# Altium footprint library dcLinkCaps.PcbLib: 13 footprints
Each footprint in its own frame and in the unit in brackets; x right, y up, seen from the top. Pads: shape width x height; smd on the part's side, far side on the other; paste and mask are expansions set on the pad; w line width, h text height; cw(c..) or ccw(c..) is an arc to the next point about the centre after c.
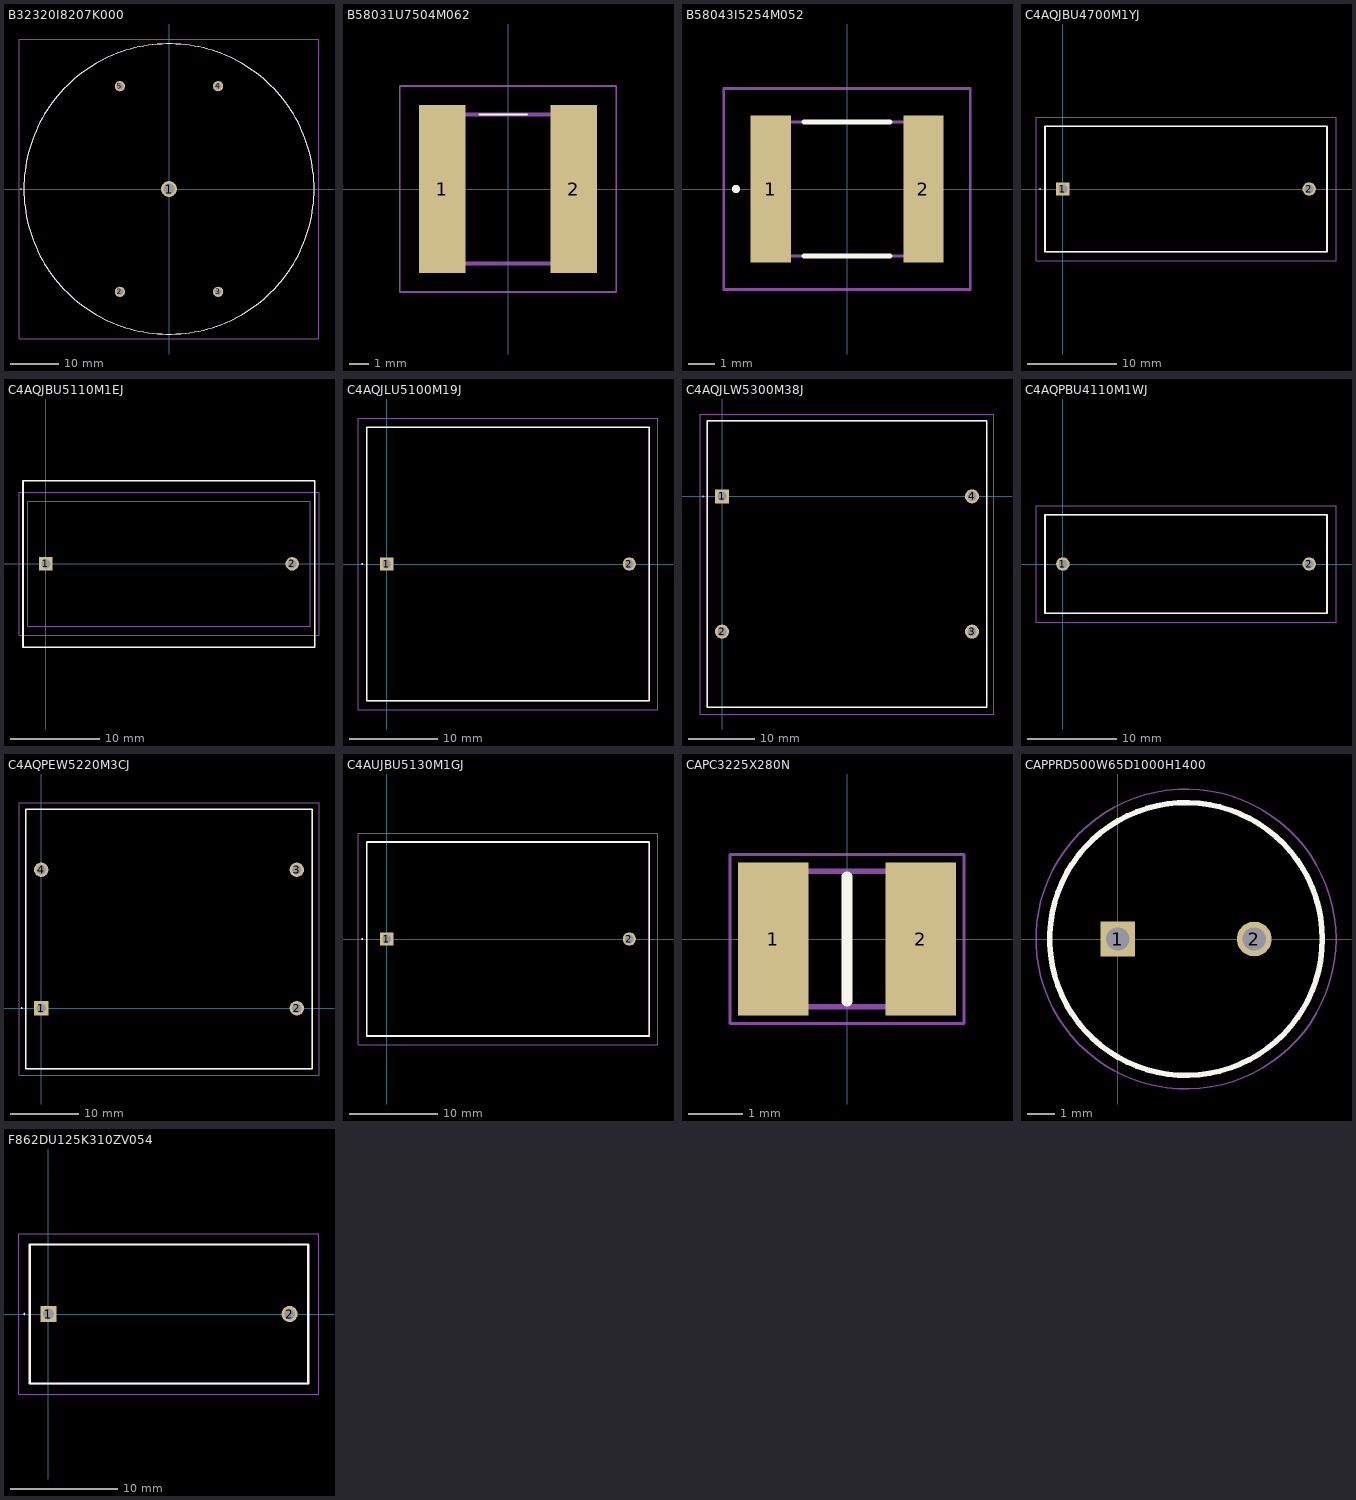
[diagram p0: the footprints below, top view; thin cyan lines are the x and y axes]

## B32320I8207K000 [mm]
pads (5):
  round 3.3 hole 2.2: 1(0,0)
  round 2.1 hole 1.4: 2(-10.15,-21.25) 3(10.15,-21.25) 4(10.15,21.25) 5(-10.15,21.25)
Top Overlay:
  lines w0.2: -30.6,0 ccw(c-30.55,0) -30.5,0 ; -30.6,0 cw(c-30.55,0) -30.5,0 ; -30.6,0 ccw(c-30.55,0) -30.5,0 ; -30,0 cw(c0,0) 30,0 cw(c0,0) -30,0
Mechanical 13:
  lines w0.1: -30,0 cw(c0,0) 30,0 cw(c0,0) -30,0
Mechanical 15:
  lines w0.1: -31,-31 -31,31 31,31 31,-31 -31,-31
3D body "B32320I8207K000.stp": height 119.75, standoff -4.75, extent -30,-30 30,30

## B58031U7504M062 [mm]
pads (2):
  rect 2.45x8.85 smd: 1(-3.475,0) 2(3.475,0)
Top Overlay:
  lines w0.1: -1.5,3.925 1,3.925
Mechanical 13:
  lines w0.2: -3.57,-3.925 3.57,-3.925 3.57,3.925 -3.57,3.925 -3.57,-3.925
Mechanical 15:
  lines w0.1: -5.7,-5.425 5.7,-5.425 5.7,5.425 -5.7,5.425 -5.7,-5.425
3D body "B58031U7504M062.stp": height 4, standoff 0, extent -3.57,-3.925 3.57,3.925

## B58043I5254M052 [mm]
pads (2):
  rect 1.5x5.5 smd: 1(-2.85,0) 2(2.85,0)
Top Overlay:
  lines w0.2: -1.6,-2.5 1.6,-2.5 ; -1.6,2.5 1.6,2.5 ; -4.2,0 ccw(c-4.15,0) -4.1,0 ; -4.2,0 cw(c-4.15,0) -4.1,0 ; -4.2,0 ccw(c-4.15,0) -4.1,0
Mechanical 13:
  lines w0.1: -2.85,-2.5 2.85,-2.5 2.85,2.5 -2.85,2.5 -2.85,-2.5
Mechanical 15:
  lines w0.1: -4.6,-3.75 4.6,-3.75 4.6,3.75 -4.6,3.75 -4.6,-3.75
3D body "B58043I5254M052.stp": height 1.4, standoff 0, extent -2.77,-2.357 2.78,2.363

## C4AQJBU4700M1YJ [mm]
pads (2):
  rect 1.5x1.5 hole 1: 1(0,0)
  round 1.5 hole 1: 2(27.5,0)
Top Overlay:
  lines w0.1: -2.6,0 cw(c-2.55,0) -2.5,0 cw(c-2.55,0) -2.6,0
  lines w0.2: -2,-7 -2,7 29.5,7 29.5,-7 -2,-7
Mechanical 13:
  lines w0.1: -2,-7 -2,7 29.5,7 29.5,-7 -2,-7
Mechanical 15:
  lines w0.1: -3,-8 -3,8 30.5,8 30.5,-8 -3,-8
3D body "C4AQJBU4700M1YJ.stp": height 28.2, standoff -6, extent -2.25,-7.155 29.75,7.15

## C4AQJBU5110M1EJ [mm]
pads (2):
  rect 1.5x1.5 hole 1: 1(0,0)
  round 1.5 hole 1: 2(27.5,0)
Top Overlay:
  lines w0.1: -2.6,0 ccw(c-2.55,0) -2.5,0 ccw(c-2.55,0) -2.6,0
  lines w0.2: -2.55,-9.325 30.025,-9.325 30.025,9.275 -2.55,9.275 -2.55,-9.325
Mechanical 13:
  lines w0.1: -2,-7 29.5,-7 29.5,7 -2,7 -2,-7
Mechanical 15:
  lines w0.1: -3,-8 30.5,-8 30.5,8 -3,8 -3,-8
3D body "C4AQJBU5110M1EJ.step": height 33.2, standoff -6, extent -2.5,-9.303 30,9.303

## C4AQJLU5100M19J [mm]
pads (2):
  rect 1.5x1.5 hole 1: 1(0,0)
  round 1.5 hole 1: 2(27.5,0)
Top Overlay:
  lines w0.1: -2.8,0 cw(c-2.75,0) -2.7,0 cw(c-2.75,0) -2.8,0
  lines w0.2: -2.25,-15.5 -2.25,15.5 29.75,15.5 29.75,-15.5 -2.25,-15.5
Mechanical 13:
  lines w0.1: -2.25,-15.5 -2.25,15.5 29.75,15.5 29.75,-15.5 -2.25,-15.5
Mechanical 15:
  lines w0.1: -3.25,-16.5 -3.25,16.5 30.75,16.5 30.75,-16.5 -3.25,-16.5
3D body "C4AQJLU5100M19J.stp": height 19.2, standoff -6, extent -2.5,-15.655 30,15.65

## C4AQJLW5300M38J [mm]
pads (4):
  rect 2.1x2.1 hole 1.4: 1(0,0)
  round 2.1 hole 1.4: 2(0,-20.3) 3(37.5,-20.3) 4(37.5,0)
Top Overlay:
  lines w0.1: -2.9,0 ccw(c-2.85,0) -2.8,0 ccw(c-2.85,0) -2.9,0
  lines w0.2: -2.25,-31.65 39.75,-31.65 39.75,11.35 -2.25,11.35 -2.25,-31.65
Mechanical 13:
  lines w0.1: -2.25,-31.65 39.75,-31.65 39.75,11.35 -2.25,11.35 -2.25,-31.65
Mechanical 15:
  lines w0.1: -3.25,-32.65 40.75,-32.65 40.75,12.35 -3.25,12.35 -3.25,-32.65
3D body "C4AQJLW5300M38J.stp": height 25.2, standoff -6, extent -2.54,-31.863 40.06,11.543

## C4AQPBU4110M1WJ [mm]
pads (2):
  round 1.5 hole 1: 1(0,0) 2(27.5,0)
Top Overlay:
  lines w0.2: -2,-5.5 29.5,-5.5 29.5,5.5 -2,5.5 -2,-5.5
Mechanical 13:
  lines w0.1: -2,-5.5 29.5,-5.5 29.5,5.5 -2,5.5 -2,-5.5
Mechanical 15:
  lines w0.1: -3,-6.5 30.5,-6.5 30.5,6.5 -3,6.5 -3,-6.5
3D body "C4AQPBU4110M1WJ.stp": height 20.2, standoff -6, extent -2.25,-5.655 29.75,5.65

## C4AQPEW5220M3CJ [mm]
pads (4):
  rect 2.1x2.1 hole 1.4: 1(0,0)
  round 2.1 hole 1.4: 2(37.5,0) 3(37.5,20.3) 4(0,20.3)
Top Overlay:
  lines w0.1: -2.9,0 ccw(c-2.85,0) -2.8,0 ; -2.9,0 cw(c-2.85,0) -2.8,0 ; -2.9,0 ccw(c-2.85,0) -2.8,0
  lines w0.2: -2.05,-8.85 -2.25,-8.85 ; -2.25,-8.85 39.75,-8.85 39.75,29.15 -2.25,29.15 -2.25,-8.85
Mechanical 13:
  lines w0.1: -2.25,-8.85 -2.25,29.15 39.75,29.15 39.75,-8.85 -2.25,-8.85
Mechanical 15:
  lines w0.1: -3.25,-9.85 -3.25,30.15 40.75,30.15 40.75,-9.85 -3.25,-9.85
3D body "C4AQPEW5220M3CJ.stp": height 57.3, standoff -6, extent -2.55,-9.105 40.05,29.4

## C4AUJBU5130M1GJ [mm]
pads (2):
  rect 1.5x1.5 hole 1: 1(0,0)
  round 1.5 hole 1: 2(27.5,0)
Top Overlay:
  lines w0.1: -2.8,0 ccw(c-2.75,0) -2.7,0 ccw(c-2.75,0) -2.8,0
  lines w0.2: -2.25,-11 29.75,-11 29.75,11 -2.25,11 -2.25,-11
Mechanical 13:
  lines w0.1: -2.25,-11 29.75,-11 29.75,11 -2.25,11 -2.25,-11
Mechanical 15:
  lines w0.1: -3.25,-12 30.75,-12 30.75,12 -3.25,12 -3.25,-12
3D body "C4AUJBU5130M1GJ.stp": height 38.11, standoff -3.59, extent -2.6,-11.355 30.1,11.35

## CAPC3225X280N [mm]
pads (2):
  rect 1.3x2.82 smd: 1(-1.36,0) 2(1.36,0)
Top Overlay:
  lines w0.2: 0,-1.15 0,1.15
Mechanical 13:
  lines w0.1: -1.6,-1.25 1.6,-1.25 1.6,1.25 -1.6,1.25 -1.6,-1.25
Mechanical 15:
  lines w0.05: -2.16,-1.56 2.16,-1.56 2.16,1.56 -2.16,1.56 -2.16,-1.56
3D body "CL32Y476KPVVPNE.stp": height 2.8, standoff 0, extent -1.6,-1.25 1.6,1.25

## CAPPRD500W65D1000H1400 [mm]
pads (2):
  rect 1.275x1.275 hole 0.85: 1(0,0)
  round 1.275 hole 0.85: 2(5,0)
Top Overlay:
  circle w0.2: c2.5,0 r5
Mechanical 13:
  circle w0.1: c2.5,0 r5
Mechanical 15:
  circle w0.05: c2.5,0 r5.5
3D body "A759MU277M1VAAE022.stp": height 14.01, standoff -19, extent -2.75,-5.25 7.75,5.25

## F862DU125K310ZV054 [mm]
pads (2):
  rect 1.5x1.5 hole 1: 1(0,0)
  round 1.5 hole 1: 2(22.5,0)
Top Overlay:
  lines w0.1: -2.3,0 cw(c-2.25,0) -2.2,0 cw(c-2.25,0) -2.3,0
  lines w0.2: -1.75,-6.5 24.25,-6.5 24.25,6.5 -1.75,6.5 -1.75,-6.5
Mechanical 13:
  lines w0.1: -1.75,-6.5 24.25,-6.5 24.25,6.5 -1.75,6.5 -1.75,-6.5
Mechanical 15:
  lines w0.1: -2.75,-7.5 25.25,-7.5 25.25,7.5 -2.75,7.5 -2.75,-7.5
3D body "F862DU125K310ZV054.stp": height 21, standoff -6.5, extent -1.5,-6.255 24,6.25